# EAGLE library part NC7WZ07 (library fairchild-semi)
Buffer/Line Drive Non-Inverting with Open Drain
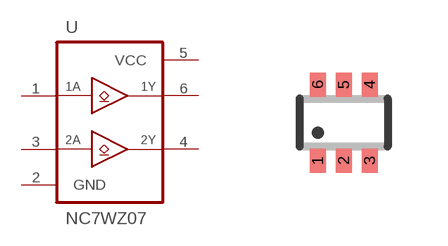
[diagram p8: symbol with the pads of SC70-6; footprint SC70-6]

Designator prefix U

## NC7WZ07P6X  [SC70-6]
1  1A  in
2  GND  pwr
3  2A  in
4  2Y  oc
5  VCC  pwr
6  1Y  oc

## Footprint SC70-6 (pad centres in mm)
SC-70 Package - Fairchild
smd 0.4 x 0.6: 1 -0.65,-0.95; 2 0,-0.95; 3 0.65,-0.95; 4 0.65,0.95; 5 0,0.95; 6 -0.65,0.95